# Altium footprint library PcbLib1.PcbLib: 38 footprints (part 1 of 3)
Each footprint in its own frame and in the unit in brackets; x right, y up, seen from the top. Pads: shape width x height; smd on the part's side, far side on the other; paste and mask are expansions set on the pad; w line width, h text height; cw(c..) or ccw(c..) is an arc to the next point about the centre after c.
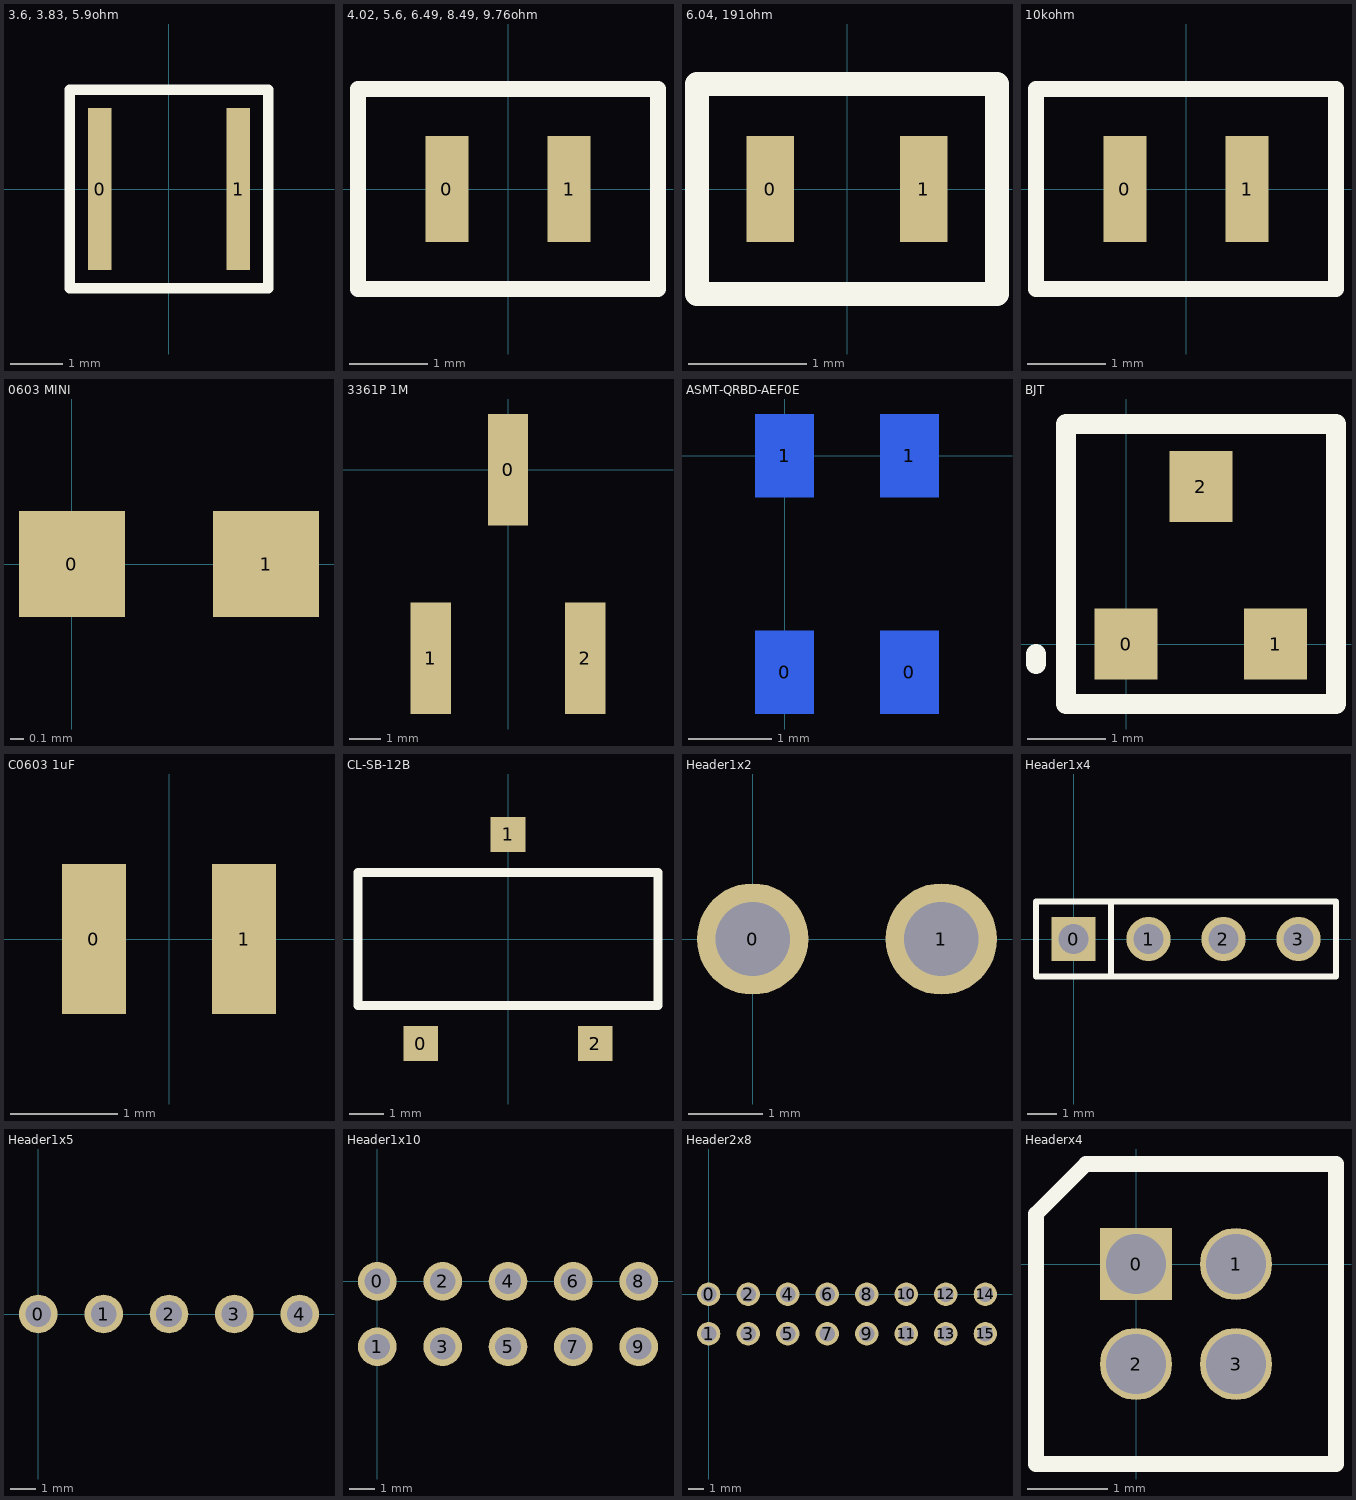
[diagram p0: the footprints below, top view; thin cyan lines are the x and y axes]

## 3.6, 3.83, 5.9ohm [mm]
pads (2):
  rect 0.45x3.1 smd: 0(-1.325,0) 1(1.325,0)
Top Overlay:
  lines w0.2: -1.905,-1.905 -1.905,1.905 1.905,1.905 1.905,-1.905 -1.905,-1.905

## 4.02, 5.6, 6.49, 8.49, 9.76ohm [mm]
pads (2):
  rect 0.55x1.35 smd: 0(-0.775,0) 1(0.775,0)
Top Overlay:
  lines w0.2: -1.905,-1.27 1.905,-1.27 1.905,1.27 -1.905,1.27 -1.905,-1.27

## 6.04, 191ohm [mm]
pads (2):
  rect 0.4x0.9 smd: 0(-0.65,0) 1(0.65,0)
Top Overlay:
  lines w0.2: -1.27,-0.889 1.27,-0.889 1.27,0.889 -1.27,0.889 -1.27,-0.889

## 10kohm [mm]
pads (2):
  rect 0.55x1.35 smd: 0(-0.775,0) 1(0.775,0)
Top Overlay:
  lines w0.2: -1.905,-1.27 -1.905,1.27 1.905,1.27 1.905,-1.27 -1.905,-1.27

## 0603 MINI [mil]
pads (2):
  rect 30x30 smd: 0(0,0) 1(55,0)

## 3361P 1M [mm]
pads (3):
  rect 1.3x3.6 smd: 0(0,0) 1(-2.5,-6.1) 2(2.5,-6.1)

## ASMT-QRBD-AEF0E [mm]
pads (4):
  rect 0.7x1 smd far side: 0(0,-2.6) 0(1.5,-2.6) 1(0,0) 1(1.5,0)

## BJT [mm]
pads (3):
  rect 0.8x0.9 smd: 0(0,0) 1(1.9,0) 2(0.95,2)
Top Overlay:
  lines w0.254: -1.143,-0.254 -1.143,-0.127 ; -0.762,-0.762 -0.762,2.794 2.667,2.794 2.667,-0.762 -0.762,-0.762

## C0603 1uF [mm]
pads (2):
  rect 0.6x1.4 smd: 0(-0.7,0) 1(0.7,0)

## CL-SB-12B [mm]
pads (3):
  rect 1x1 smd: 0(-2.5,-3) 1(0,3) 2(2.5,-3)
Top Overlay:
  lines w0.254: 4.3,-1.905 -4.3,-1.905 -4.3,1.905 4.3,1.905 ; 4.3,-1.9 4.3,1.91

## Header1x2 [mm]
pads (2):
  round 1.5 hole 1: 0(0,0) 1(2.54,0)

## Header1x4 [mm]
pads (4):
  rect 1.5x1.5 hole 1: 0(0,0)
  round 1.5 hole 1: 1(2.54,0) 2(5.08,0) 3(7.62,0)
Top Overlay:
  lines w0.2: 1.27,-1.27 1.27,1.27 ; -1.27,-1.27 8.89,-1.27 8.89,1.27 -1.27,1.27 -1.27,-1.27

## Header1x5 [mm]
pads (5):
  round 1.5 hole 1: 0(0,0) 1(2.54,0) 2(5.08,0) 3(7.62,0) 4(10.16,0)

## Header1x10 [mm]
pads (10):
  round 1.5 hole 1: 0(0,0) 1(0,-2.54) 2(2.54,0) 3(2.54,-2.54) 4(5.08,0) 5(5.08,-2.54) 6(7.62,0) 7(7.62,-2.54) 8(10.16,0) 9(10.16,-2.54)

## Header2x8 [mm]
pads (16):
  round 1.5 hole 1: 0(0,0) 1(0,-2.54) 2(2.54,0) 3(2.54,-2.54) 4(5.08,0) 5(5.08,-2.54) 6(7.62,0) 7(7.62,-2.54) 8(10.16,0) 9(10.16,-2.54) 10(12.7,0) 11(12.7,-2.54) 12(15.24,0) 13(15.24,-2.54) 14(17.78,0) 15(17.78,-2.54)

## Headerx4 [mm]
pads (4):
  rect 0.9x0.9 hole 0.75: 0(0,0)
  round 0.9 hole 0.75: 1(1.25,0) 2(0,-1.25) 3(1.25,-1.25)
Top Overlay:
  lines w0.2: -1.25,-2.5 2.5,-2.5 2.5,1.25 -0.625,1.25 -1.25,0.625 -1.25,-2.5